# EAGLE library part M-2X04- (library con-headers-jp)
MALE HEADER
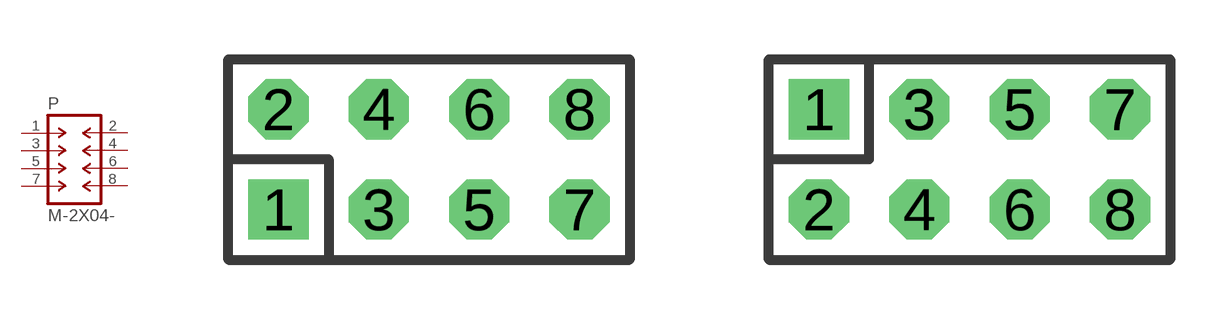
[diagram p61: symbol with the pads of DIL-100-2X04; footprints DIL-100-2X04, DIL-100-2X04_M]

Designator prefix P

## M-2X04-DIL-100  [DIL-100-2X04]
1  1  pas
2  2  pas
3  3  pas
4  4  pas
5  5  pas
6  6  pas
7  7  pas
8  8  pas

## M-2X04-DIL-100_M  [DIL-100-2X04_M]
Pads as for DIL-100-2X04

## M-2X04-DIL-2MM  [DIL-2MM-2X04]
Pads as for DIL-100-2X04

## M-2X04-DIL-2MM_M  [DIL-2MM-2X04_M]
Pads as for DIL-100-2X04

## M-2X04-87759  [87759-08]
Pads as for DIL-100-2X04

## M-2X04-87759_M  [87759-08_M]
Pads as for DIL-100-2X04

## Footprint DIL-100-2X04 (pad centres in mm)
PIN HEADER - 0.1"
drill 1.016 square: 1 -3.81,-1.27
drill 1.016 octagon: 2 -3.81,1.27; 3 -1.27,-1.27; 4 -1.27,1.27; 5 1.27,-1.27; 6 1.27,1.27; 7 3.81,-1.27; 8 3.81,1.27

## Footprint DIL-100-2X04_M (pad centres in mm)
PIN HEADER - MIRRORED 0.1"
drill 1.016 square: 1 -3.81,1.27
drill 1.016 octagon: 2 -3.81,-1.27; 3 -1.27,1.27; 4 -1.27,-1.27; 5 1.27,1.27; 6 1.27,-1.27; 7 3.81,1.27; 8 3.81,-1.27

## Footprint DIL-2MM-2X04 (pad centres in mm)
PIN HEADER - 2MM"
drill 0.711 square: 1 -3,-1
drill 0.711: 2 -3,1; 3 -1,-1; 4 -1,1; 5 1,-1; 6 1,1; 7 3,-1; 8 3,1

## Footprint DIL-2MM-2X04_M (pad centres in mm)
PIN HEADER - MIRRORED 2MM
drill 0.711 square: 1 -3,1
drill 0.711: 2 -3,-1; 3 -1,1; 4 -1,-1; 5 1,1; 6 1,-1; 7 3,1; 8 3,-1

## Footprint 87759-08 (pad centres in mm)
Molex PCB Pin Headers 2.00mm (.079") Pitch Milli-Grid Header, Vertical SMD
smd 1 x 2.75: 1 -3,-2.15; 2 -3,2.15; 3 -1,-2.15; 4 -1,2.15; 5 1,-2.15; 6 1,2.15; 7 3,-2.15; 8 3,2.15
hole 1 at -2,0
hole 1 at 2,0

## Footprint 87759-08_M (pad centres in mm)
Molex PCB Pin Headers - MIRRORED PADS 2.00mm (.079") Pitch Milli-Grid Header, Vertical SMD
smd 1 x 2.75: 1 -3,2.15; 2 -3,-2.15; 3 -1,2.15; 4 -1,-2.15; 5 1,2.15; 6 1,-2.15; 7 3,2.15; 8 3,-2.15
hole 1 at -2,0
hole 1 at 2,0